# Altium schematic symbol library Schlib_Integral.SchLib: 66 symbols
Pins are listed as number, name and electrical type; pins without a type are passive.

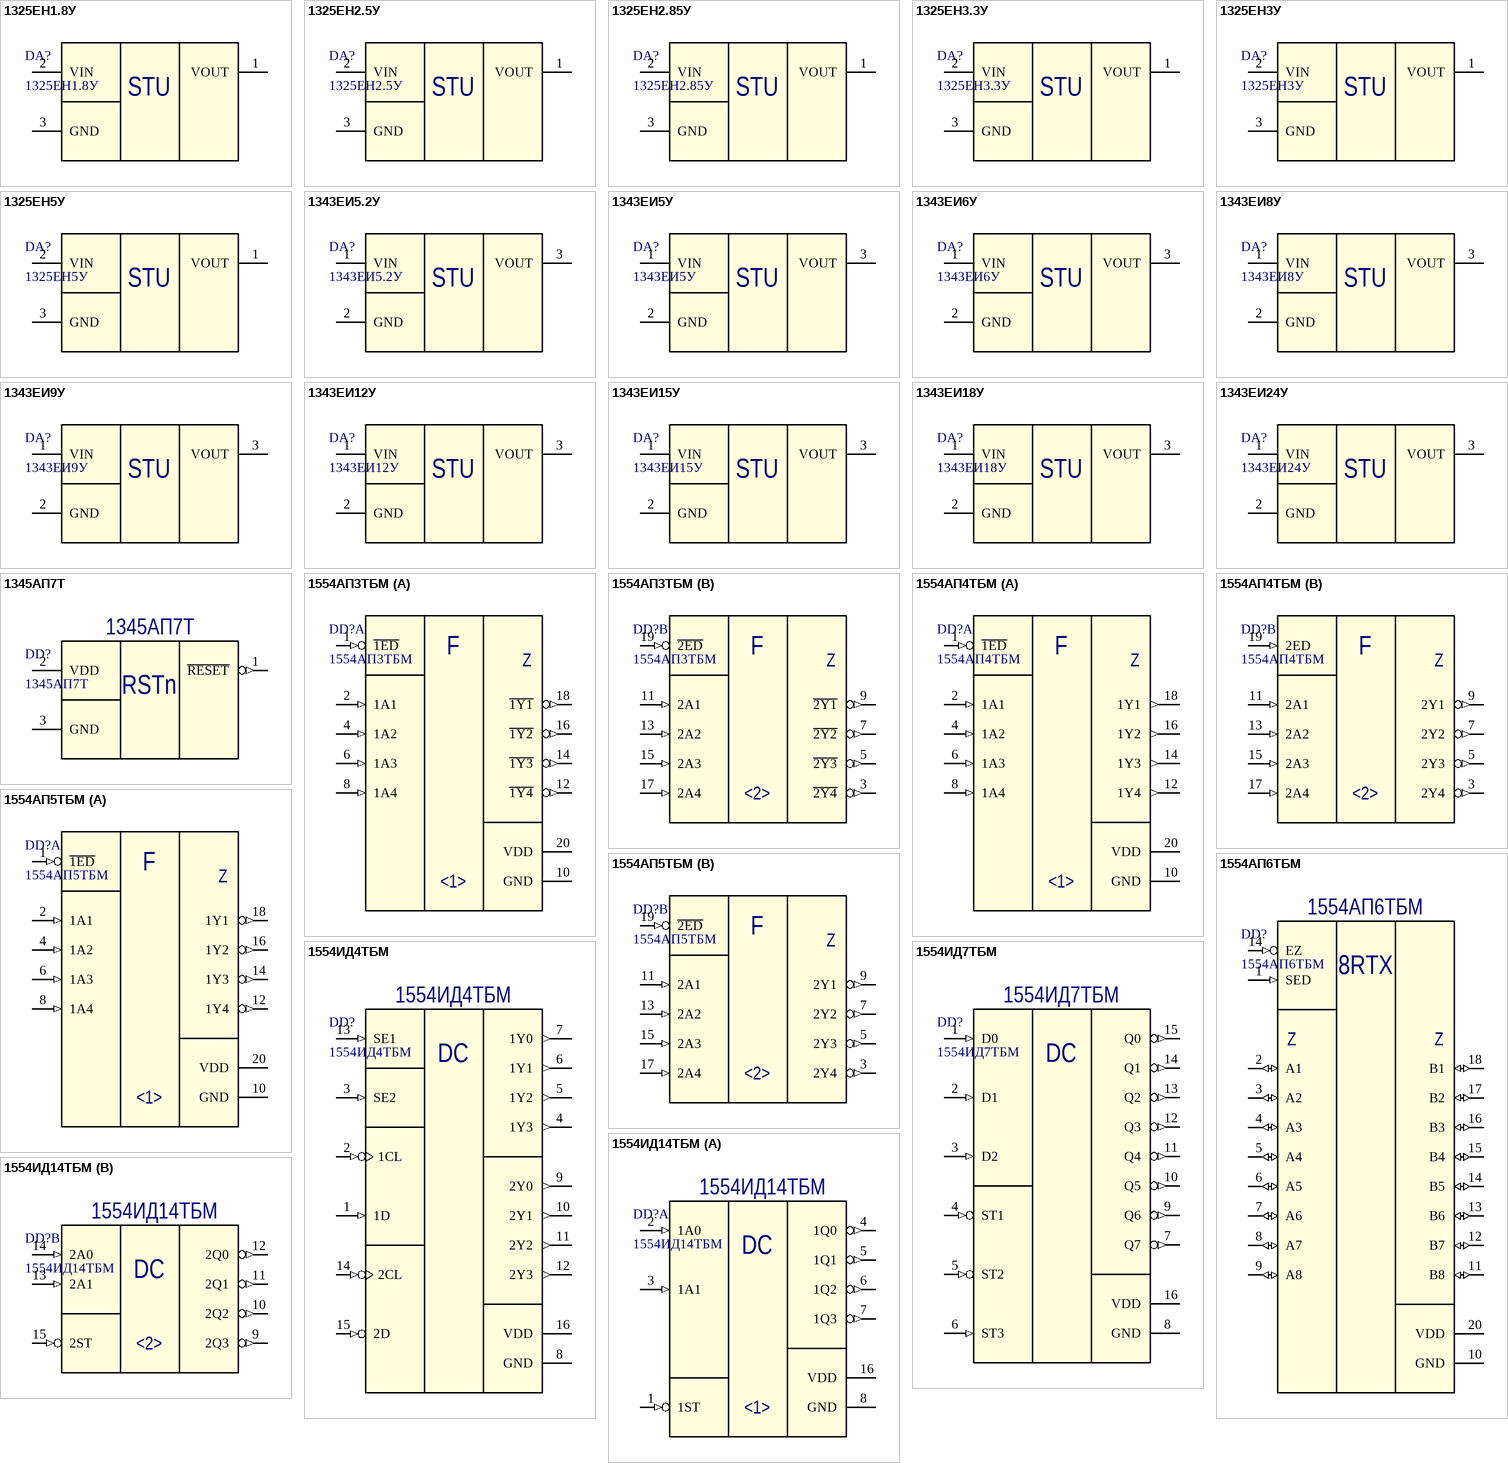
[diagram p0: symbols 1325ЕН1.8У to 1554ИД14ТБМ]

## 1325ЕН1.8У
designator DA?
Стабилизатор напряжения положительной полярности с низким напряжением насыщения с фиксированным выходным напряжением: 1.8В; Выходной ток – Iвых ≤ 0.8А; Package: КТ93-1; Part Number: 1325ЕН1.8У
footprint КТ93-1
pins: 1 VOUT (power), 2 VIN (power), 3 GND (power)
text: STU

## 1325ЕН2.5У
designator DA?
Стабилизаторы напряжения положительной полярности с низким напряжением насыщения с фиксированными выходными напряжениями: 2.5В; Выходной ток – Iвых ≤ 0.8А; Package: КТ93-1; Part Number: 1325ЕН2.5У
footprint КТ93-1
pins: 1 VOUT (power), 2 VIN (power), 3 GND (power)
text: STU

## 1325ЕН2.85У
designator DA?
Стабилизаторы напряжения положительной полярности с низким напряжением насыщения с фиксированными выходными напряжениями: 2.85В; Выходной ток – Iвых ≤ 0.8А; Package: КТ93-1; Part Number: 1325ЕН2.85У
footprint КТ93-1
pins: 1 VOUT (power), 2 VIN (power), 3 GND (power)
text: STU

## 1325ЕН3.3У
designator DA?
Стабилизаторы напряжения положительной полярности с низким напряжением насыщения с фиксированными выходными напряжениями: 3.3В; Выходной ток – Iвых ≤ 0.8А; Package: КТ93-1; Part Number: 1325ЕН3.3У
footprint КТ93-1
pins: 1 VOUT (power), 2 VIN (power), 3 GND (power)
text: STU

## 1325ЕН3У
designator DA?
Стабилизаторы напряжения положительной полярности с низким напряжением насыщения с фиксированными выходными напряжениями: 3В; Выходной ток – Iвых ≤ 0.8А; Package: КТ93-1; Part Number: 1325ЕН3У
footprint КТ93-1
pins: 1 VOUT (power), 2 VIN (power), 3 GND (power)
text: STU

## 1325ЕН5У
designator DA?
Стабилизаторы напряжения положительной полярности с низким напряжением насыщения с фиксированными выходными напряжениями: 5В; Выходной ток – Iвых ≤ 0.8А; Package: КТ93-1; Part Number: 1325ЕН5У
footprint КТ93-1
pins: 1 VOUT (power), 2 VIN (power), 3 GND (power)
text: STU

## 1343ЕИ5.2У
designator DA?
Стабилизатор напряжения отрицательной  полярности с фиксированным выходным напряжением -5.2В Выходной ток – IВЫХ ≤ 1.5А; Package: КТ93-1; Part Number: 1343ЕИ5.2У
footprint КТ93-1
pins: 1 VIN (power), 2 GND (power), 3 VOUT (power)
text: STU

## 1343ЕИ5У
designator DA?
Стабилизатор напряжения отрицательной  полярности с фиксированным выходным напряжением -5В Выходной ток – IВЫХ ≤ 1.5А; Package: КТ93-1; Part Number: 1343ЕИ5У
footprint КТ93-1
pins: 1 VIN (power), 2 GND (power), 3 VOUT (power)
text: STU

## 1343ЕИ6У
designator DA?
Стабилизатор напряжения отрицательной полярности с фиксированным выходным напряжением -6В Выходной ток – IВЫХ ≤ 1.5А; Package: КТ93-1; Part Number: 1343ЕИ6У
footprint КТ93-1
pins: 1 VIN (power), 2 GND (power), 3 VOUT (power)
text: STU

## 1343ЕИ8У
designator DA?
Стабилизатор напряжения отрицательной  полярности с фиксированным выходным напряжением -8В Выходной ток – IВЫХ ≤ 1.5А; Package: КТ93-1; Part Number: 1343ЕИ8У
footprint КТ93-1
pins: 1 VIN (power), 2 GND (power), 3 VOUT (power)
text: STU

## 1343ЕИ9У
designator DA?
Стабилизатор напряжения отрицательной  полярности с фиксированным выходным напряжением -9В Выходной ток – IВЫХ ≤ 1.5А; Package: КТ93-1; Part Number: 1343ЕИ9У
footprint КТ93-1
pins: 1 VIN (power), 2 GND (power), 3 VOUT (power)
text: STU

## 1343ЕИ12У
designator DA?
Стабилизатор напряжения отрицательной  полярности с фиксированным выходным напряжением -12В Выходной ток – IВЫХ ≤ 1.5А; Package: КТ93-1; Part Number: 1343ЕИ12У
footprint КТ93-1
pins: 1 VIN (power), 2 GND (power), 3 VOUT (power)
text: STU

## 1343ЕИ15У
designator DA?
Стабилизатор напряжения отрицательной  полярности с фиксированным выходным напряжением -15В Выходной ток – IВЫХ ≤ 1.5А; Package: КТ93-1; Part Number: 1343ЕИ15У
footprint КТ93-1
pins: 1 VIN (power), 2 GND (power), 3 VOUT (power)
text: STU

## 1343ЕИ18У
designator DA?
Стабилизатор напряжения отрицательной  полярности с фиксированным выходным напряжением-18В Выходной ток – IВЫХ ≤ 1.5А; Package: КТ93-1; Part Number: 1343ЕИ18У
footprint КТ93-1
pins: 1 VIN (power), 2 GND (power), 3 VOUT (power)
text: STU

## 1343ЕИ24У
designator DA?
Стабилизатор напряжения отрицательной  полярности с фиксированным выходными напряжением -24В Выходной ток – Iвых ≤ 1.5А; Package: КТ93-1; Part Number: 1343ЕИ24У
footprint КТ93-1
pins: 1 VIN (power), 2 GND (power), 3 VOUT (power)
text: STU

## 1345АП7Т
designator DD?
Супервизор питания Напряжение порога срабатывания, UТН = 2,90 ÷ 3,25 В; Package: 4601.3-1; Part Number: 1345АП7Т
footprint 4601.3-1
pins: 1 ~{RESET} (out), 2 VDD (power), 3 GND (power)
text: RSTn

## 1554АП3ТБМ
designator DD?
Два четырехканальных формирователя с тремя состояниями и инверсией на выходе; Prototype: 54AC240; Package: 4153.20-6; Part Number: 1554АП3ТБМ
footprint 4153.20-6
part A pins: 1 ~{1ED} (in), 2 1A1 (in), 4 1A2 (in), 6 1A3 (in), 8 1A4 (in), 10 GND (power), 12 ~{1Y4} (out), 14 ~{1Y3} (out), 16 ~{1Y2} (out), 18 ~{1Y1} (out), 20 VDD (power)
part B pins: 3 ~{2Y4} (out), 5 ~{2Y3} (out), 7 ~{2Y2} (out), 9 ~{2Y1} (out), 11 2A1 (in), 13 2A2 (in), 15 2A3 (in), 17 2A4 (in), 19 ~{2ED} (in)
part A text: F; Z; <1>
part B text: F; Z; <2>

## 1554АП4ТБМ
designator DD?
Два четырехканальных формирователя с тремя состояниями на выходе; Prototype: 54AC241; Package: 4153.20-6; Part Number: 1554АП4ТБМ
footprint 4153.20-6
part A pins: 1 ~{1ED} (in), 2 1A1 (in), 4 1A2 (in), 6 1A3 (in), 8 1A4 (in), 10 GND (power), 12 1Y4 (out), 14 1Y3 (out), 16 1Y2 (out), 18 1Y1 (out), 20 VDD (power)
part B pins: 3 2Y4 (out), 5 2Y3 (out), 7 2Y2 (out), 9 2Y1 (out), 11 2A1 (in), 13 2A2 (in), 15 2A3 (in), 17 2A4 (in), 19 2ED (in)
part A text: F; Z; <1>
part B text: F; Z; <2>

## 1554АП5ТБМ
designator DD?
Два четырехканальных формирователя с тремя состояниями на выходе; Prototype: 54AC244; Package: 4153.20-6; Part Number: 1554АП5ТБМ
footprint 4153.20-6
part A pins: 1 ~{1ED} (in), 2 1A1 (in), 4 1A2 (in), 6 1A3 (in), 8 1A4 (in), 10 GND (power), 12 1Y4 (out), 14 1Y3 (out), 16 1Y2 (out), 18 1Y1 (out), 20 VDD (power)
part B pins: 3 2Y4 (out), 5 2Y3 (out), 7 2Y2 (out), 9 2Y1 (out), 11 2A1 (in), 13 2A2 (in), 15 2A3 (in), 17 2A4 (in), 19 ~{2ED} (in)
part A text: F; Z; <1>
part B text: F; Z; <2>

## 1554АП6ТБМ
designator DD?
Восьмиканальный двунаправленный приемо-передатчик с тремя состояниями на выходе; Prototype: 54AC245; Package: 4153.20-6; Part Number: 1554АП6ТБМ
footprint 4153.20-6
pins: 1 SED (in), 2 A1 (io), 3 A2 (io), 4 A3 (io), 5 A4 (io), 6 A5 (io), 7 A6 (io), 8 A7 (io), 9 A8 (io), 10 GND (power), 11 B8 (io), 12 B7 (io), 13 B6 (io), 14 EZ (in), 14 B5 (io), 15 B4 (io), 16 B3 (io), 17 B2 (io), 18 B1 (io), 20 VDD (power)
text: 8RTX; Z

## 1554ИД4ТБМ
designator DD?
Сдвоенный дешифратор-демультиплексор 2-4; Prototype: 54AC155; Package: 402.16-32; Part Number: 1554ИД4ТБМ
footprint 402.16-32
pins: 1 1D (in), 2 1CL (in), 3 SE2 (in), 4 1Y3 (out), 5 1Y2 (out), 6 1Y1 (out), 7 1Y0 (out), 8 GND (power), 9 2Y0 (out), 10 2Y1 (out), 11 2Y2 (out), 12 2Y3 (out), 13 SE1 (in), 14 2CL (in), 15 2D (in), 16 VDD (power)
text: DC

## 1554ИД7ТБМ
designator DD?
Дешифратор-демультиплексор 3-8 с инверсией на выходе; Prototype: 54AC138; Package: 402.16-32; Part Number: 1554ИД7ТБМ
footprint 402.16-32
pins: 1 D0 (in), 2 D1 (in), 3 D2 (in), 4 ST1 (in), 5 ST2 (in), 6 ST3 (in), 7 Q7 (out), 8 GND (power), 9 Q6 (out), 10 Q5 (out), 11 Q4 (out), 12 Q3 (out), 13 Q2 (out), 14 Q1 (out), 15 Q0 (out), 16 VDD (power)
text: DC

## 1554ИД14ТБМ
designator DD?
Два дешифратора-демультиплексора 2-4 с инверсией на выходе; Prototype: 54AC139; Package: 402.16-32; Part Number: 1554ИД14ТБМ
footprint 402.16-32
part A pins: 1 1ST (in), 2 1A0 (in), 3 1A1 (in), 4 1Q0 (out), 5 1Q1 (out), 6 1Q2 (out), 7 1Q3 (out), 8 GND (power), 16 VDD (power)
part B pins: 9 2Q3 (out), 10 2Q2 (out), 11 2Q1 (out), 12 2Q0 (out), 13 2A1 (in), 14 2A0 (in), 15 2ST (in)
part A text: DC; <1>
part B text: DC; <2>

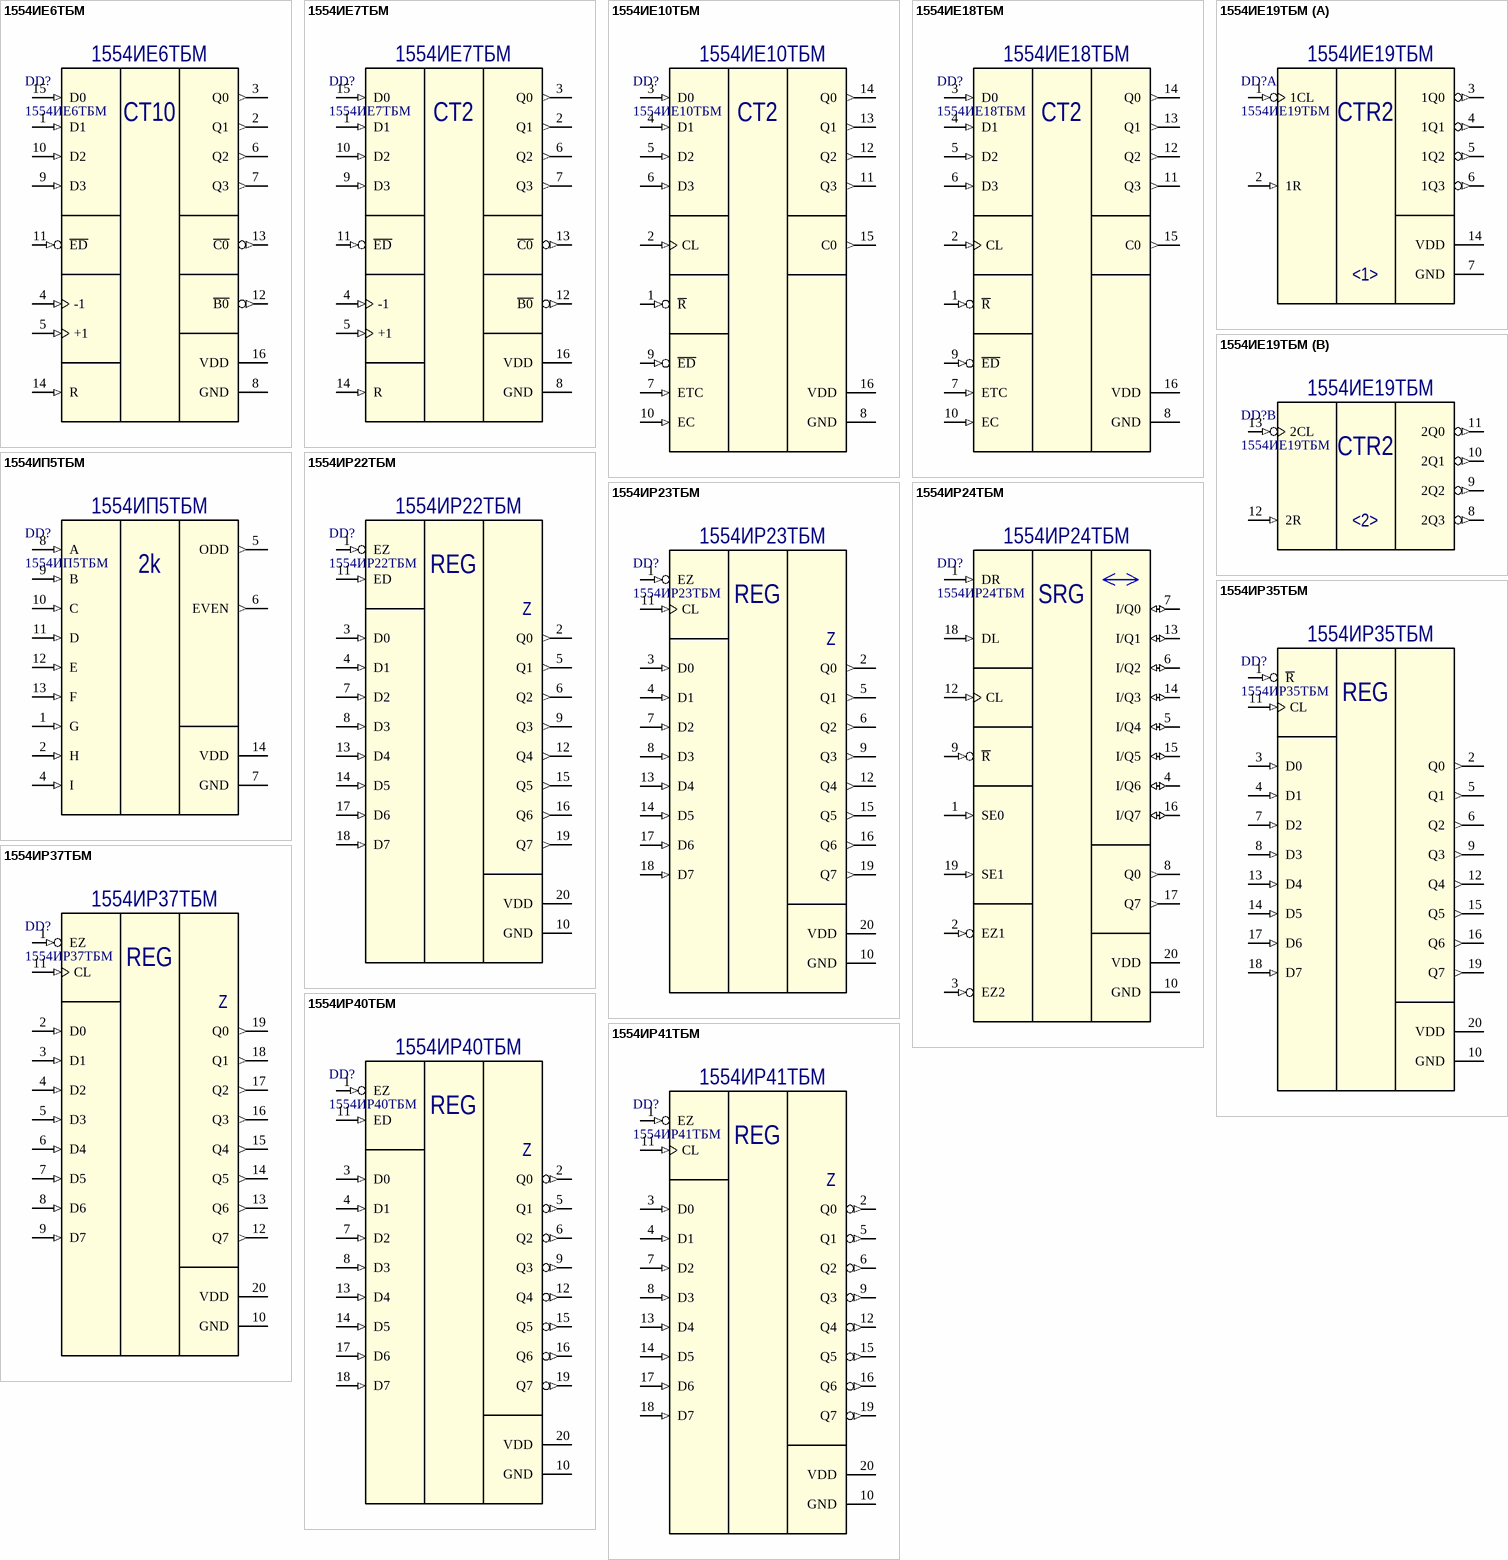
[diagram p1: symbols 1554ИЕ6ТБМ to 1554ИР41ТБМ]

## 1554ИЕ6ТБМ
designator DD?
Четырехразрядный двоично-десятичный реверсивный счетчик; Prototype: 54AC192; Package: 402.16-32; Part Number: 1554ИЕ6ТБМ
footprint 402.16-32
pins: 1 D1 (in), 2 Q1 (out), 3 Q0 (out), 4 -1 (in), 5 +1 (in), 6 Q2 (out), 7 Q3 (out), 8 GND (power), 9 D3 (in), 10 D2 (in), 11 ~{ED} (in), 12 ~{B0} (out), 13 ~{C0} (out), 14 R (in), 15 D0 (in), 16 VDD (power)
text: CT10

## 1554ИЕ7ТБМ
designator DD?
Четырехразрядный двоичный реверсивный счетчик; Prototype: 54AC193; Package: 402.16-32; Part Number: 1554ИЕ7ТБМ
footprint 402.16-32
pins: 1 D1 (in), 2 Q1 (out), 3 Q0 (out), 4 -1 (in), 5 +1 (in), 6 Q2 (out), 7 Q3 (out), 8 GND (power), 9 D3 (in), 10 D2 (in), 11 ~{ED} (in), 12 ~{B0} (out), 13 ~{C0} (out), 14 R (in), 15 D0 (in), 16 VDD (power)
text: CT2

## 1554ИЕ10ТБМ
designator DD?
Четырехразрядный двоичный счетчик с асинхронной установкой в состояние 'Логический 0'; Prototype: 54AC161; Package: 402.16-32; Part Number: 1554ИЕ10ТБМ
footprint 402.16-32
pins: 1 ~{R} (in), 2 CL (in), 3 D0 (in), 4 D1 (in), 5 D2 (in), 6 D3 (in), 7 ETC (in), 8 GND (power), 9 ~{ED} (in), 10 EC (in), 11 Q3 (out), 12 Q2 (out), 13 Q1 (out), 14 Q0 (out), 15 C0 (out), 16 VDD (power)
text: CT2

## 1554ИЕ18ТБМ
designator DD?
Четырехразрядный двоичный счетчик с синхронной установкой в состояние 'Логический 0'; Prototype: 54AC163; Package: 402.16-32; Part Number: 1554ИЕ18ТБМ
footprint 402.16-32
pins: 1 ~{R} (in), 2 CL (in), 3 D0 (in), 4 D1 (in), 5 D2 (in), 6 D3 (in), 7 ETC (in), 8 GND (power), 9 ~{ED} (in), 10 EC (in), 11 Q3 (out), 12 Q2 (out), 13 Q1 (out), 14 Q0 (out), 15 C0 (out), 16 VDD (power)
text: CT2

## 1554ИЕ19ТБМ
designator DD?
Два дешифратора-демультиплексора 2-4 с инверсией на выходе; Prototype: 54AC139; Package: 402.16-32; Part Number: 1554ИЕ19ТБМ
footprint 401.14-5
part A pins: 1 1CL (in), 2 1R (in), 3 1Q0 (out), 4 1Q1 (out), 5 1Q2 (out), 6 1Q3 (out), 7 GND (power), 14 VDD (power)
part B pins: 8 2Q3 (out), 9 2Q2 (out), 10 2Q1 (out), 11 2Q0 (out), 12 2R (in), 13 2CL (in)
part A text: CTR2; <1>
part B text: CTR2; <2>

## 1554ИП5ТБМ
designator DD?
Девятиразрядная схема контроля четности; Prototype: 54AC280; Package: 401.14-5; Part Number: 1554ИП5ТБМ
footprint 401.14-5
pins: 1 G (in), 2 H (in), 4 I (in), 5 ODD (out), 6 EVEN (out), 7 GND (power), 8 A (in), 9 B (in), 10 C (in), 11 D (in), 12 E (in), 13 F (in), 14 VDD (power)
text: 2k

## 1554ИР22ТБМ
designator DD?
Восьмиразрядный регистр, управляемый по уровню, с параллельным вводом-выводом данных, с тремя состояниями на выходе; Prototype: 54AC373; Package: 4153.20-6; Part Number: 1554ИР22ТБМ
footprint 4153.20-6
pins: 1 EZ (in), 2 Q0 (out), 3 D0 (in), 4 D1 (in), 5 Q1 (out), 6 Q2 (out), 7 D2 (in), 8 D3 (in), 9 Q3 (out), 10 GND (power), 11 ED (in), 12 Q4 (out), 13 D4 (in), 14 D5 (in), 15 Q5 (out), 16 Q6 (out), 17 D6 (in), 18 D7 (in), 19 Q7 (out), 20 VDD (power)
text: REG; Z

## 1554ИР23ТБМ
designator DD?
Восьмиразрядный регистр, управляемый по фронту, с параллельным вводом-выводом данных, с тремя состояниями на выходе; Prototype: 54AC374; Package: 4153.20-6; Part Number: 1554ИР23ТБМ
footprint 4153.20-6
pins: 1 EZ (in), 2 Q0 (out), 3 D0 (in), 4 D1 (in), 5 Q1 (out), 6 Q2 (out), 7 D2 (in), 8 D3 (in), 9 Q3 (out), 10 GND (power), 11 CL (in), 12 Q4 (out), 13 D4 (in), 14 D5 (in), 15 Q5 (out), 16 Q6 (out), 17 D6 (in), 18 D7 (in), 19 Q7 (out), 20 VDD (power)
text: REG; Z

## 1554ИР24ТБМ
designator DD?
Восьмиразрядный двунаправленный сдвиговый регистр с параллельным вводом-выводом, последовательным вводом информации, асинхронным сбросом и тремя состояниями на выходе; Prototype: 54AC299; Package: 4153.20-6; Part Number: 1554ИР24ТБМ
footprint 4153.20-6
pins: 1 DR (in), 1 SE0 (in), 2 EZ1 (in), 3 EZ2 (in), 4 I/Q6 (io), 5 I/Q4 (io), 6 I/Q2 (io), 7 I/Q0 (io), 8 Q0 (out), 9 ~{R} (in), 10 GND (power), 12 CL (in), 13 I/Q1 (io), 14 I/Q3 (io), 15 I/Q5 (io), 16 I/Q7 (io), 17 Q7 (out), 18 DL (in), 19 SE1 (in), 20 VDD (power)
text: SRG

## 1554ИР35ТБМ
designator DD?
Восьмиразрядный регистр, управляемый по фронту, с параллельным вводом-выводом данных, с входом установки; Prototype: 54AC273; Package: 4153.20-6; Part Number: 1554ИР35ТБМ
footprint 4153.20-6
pins: 1 ~{R} (in), 2 Q0 (out), 3 D0 (in), 4 D1 (in), 5 Q1 (out), 6 Q2 (out), 7 D2 (in), 8 D3 (in), 9 Q3 (out), 10 GND (power), 11 CL (in), 12 Q4 (out), 13 D4 (in), 14 D5 (in), 15 Q5 (out), 16 Q6 (out), 17 D6 (in), 18 D7 (in), 19 Q7 (out), 20 VDD (power)
text: REG

## 1554ИР37ТБМ
designator DD?
Восьмиразрядный регистр, управляемый по фронту, с параллельным вводом-выводом данных, с входом установки; Prototype: 54AC273; Package: 4153.20-6; Part Number: 1554ИР37ТБМ
footprint 4153.20-6
pins: 1 EZ (in), 2 D0 (in), 3 D1 (in), 4 D2 (in), 5 D3 (in), 6 D4 (in), 7 D5 (in), 8 D6 (in), 9 D7 (in), 10 GND (power), 11 CL (in), 12 Q7 (out), 13 Q6 (out), 14 Q5 (out), 15 Q4 (out), 16 Q3 (out), 17 Q2 (out), 18 Q1 (out), 19 Q0 (out), 20 VDD (power)
text: REG; Z

## 1554ИР40ТБМ
designator DD?
Восьмиразрядный регистр, управляемый по уровню, с параллельным вводом-выводом данных, с тремя состояниями и инверсией на выходе; Prototype: 54AC533; Package: 4153.20-6; Part Number: 1554ИР40ТБМ
footprint 4153.20-6
pins: 1 EZ (in), 2 Q0 (out), 3 D0 (in), 4 D1 (in), 5 Q1 (out), 6 Q2 (out), 7 D2 (in), 8 D3 (in), 9 Q3 (out), 10 GND (power), 11 ED (in), 12 Q4 (out), 13 D4 (in), 14 D5 (in), 15 Q5 (out), 16 Q6 (out), 17 D6 (in), 18 D7 (in), 19 Q7 (out), 20 VDD (power)
text: REG; Z

## 1554ИР41ТБМ
designator DD?
Восьмиразрядный регистр, управляемый по фронту, с параллельным вводом-выводом данных, с тремя состояниями и инверсией на выходе; Prototype: 54AC534; Package: 4153.20-6; Part Number: 1554ИР41ТБМ
footprint 4153.20-6
pins: 1 EZ (in), 2 Q0 (out), 3 D0 (in), 4 D1 (in), 5 Q1 (out), 6 Q2 (out), 7 D2 (in), 8 D3 (in), 9 Q3 (out), 10 GND (power), 11 CL (in), 12 Q4 (out), 13 D4 (in), 14 D5 (in), 15 Q5 (out), 16 Q6 (out), 17 D6 (in), 18 D7 (in), 19 Q7 (out), 20 VDD (power)
text: REG; Z

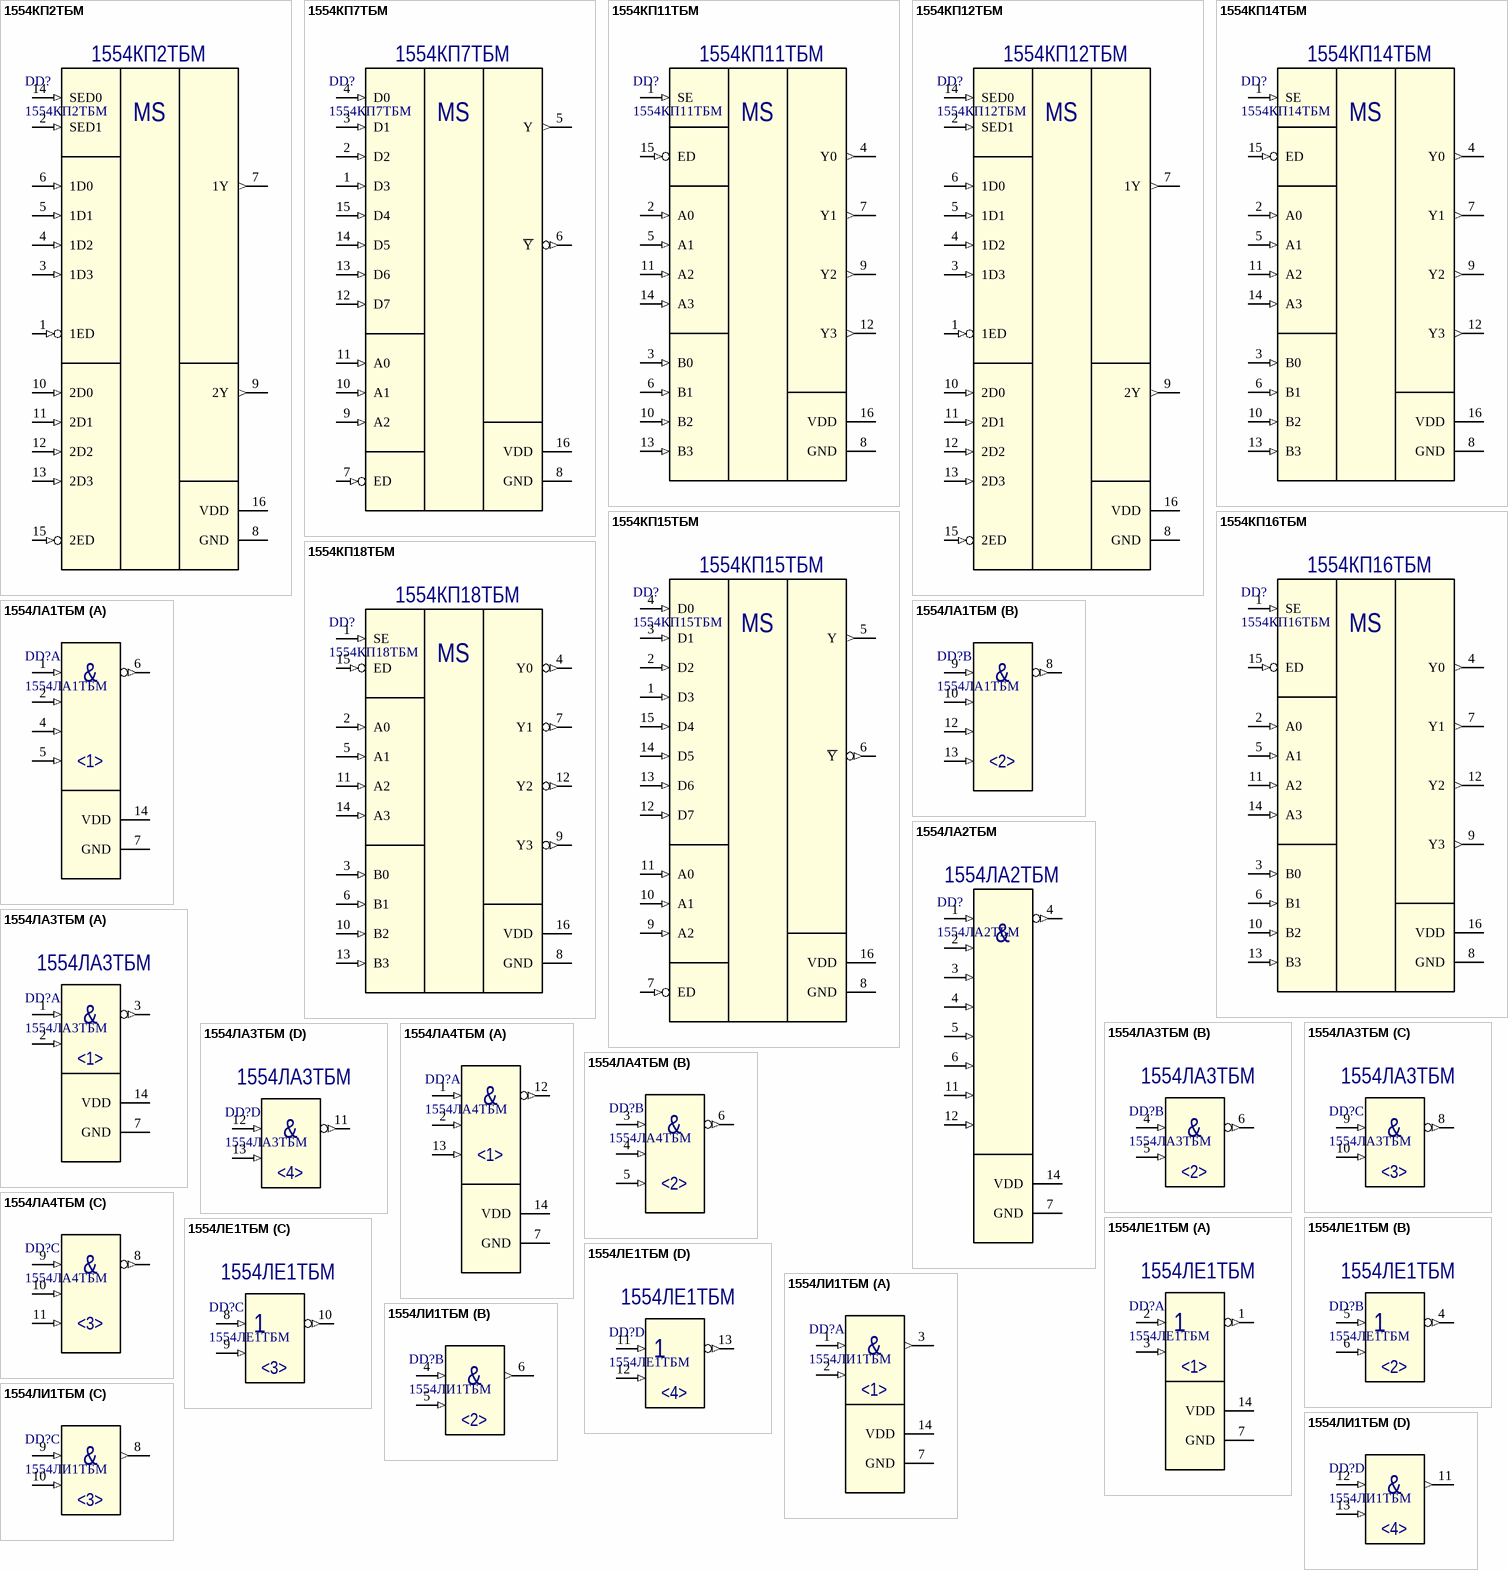
[diagram p2: symbols 1554КП2ТБМ to 1554ЛИ1ТБМ]

## 1554КП2ТБМ
designator DD?
Два селектора-мультиплексора 4-1; Prototype: 54AC153; Package: 402.16-32; Part Number: 1554КП2ТБМ
footprint 402.16-32
pins: 1 1ED (in), 2 SED1 (in), 3 1D3 (in), 4 1D2 (in), 5 1D1 (in), 6 1D0 (in), 7 1Y (out), 8 GND (power), 9 2Y (out), 10 2D0 (in), 11 2D1 (in), 12 2D2 (in), 13 2D3 (in), 14 SED0 (in), 15 2ED (in), 16 VDD (power)
text: MS

## 1554КП7ТБМ
designator DD?
Селектор-мультиплексор 8-1 со стробированием; Prototype: 54AC151; Package: 402.16-32; Part Number: 1554КП7ТБМ
footprint 402.16-32
pins: 1 D3 (in), 2 D2 (in), 3 D1 (in), 4 D0 (in), 5 Y (out), 6 ~{Y} (out), 7 ED (in), 8 GND (power), 9 A2 (in), 10 A1 (in), 11 A0 (in), 12 D7 (in), 13 D6 (in), 14 D5 (in), 15 D4 (in), 16 VDD (power)
text: MS

## 1554КП11ТБМ
designator DD?
Четыре селектора-мультиплексора 2-1 с тремя состояниями на выходе; Prototype: 54AC257; Package: 402.16-32; Part Number: 1554КП11ТБМ
footprint 402.16-32
pins: 1 SE (in), 2 A0 (in), 3 B0 (in), 4 Y0 (out), 5 A1 (in), 6 B1 (in), 7 Y1 (out), 8 GND (power), 9 Y2 (out), 10 B2 (in), 11 A2 (in), 12 Y3 (out), 13 B3 (in), 14 A3 (in), 15 ED (in), 16 VDD (power)
text: MS

## 1554КП12ТБМ
designator DD?
Два селектора-мультиплексора 4-1 с тремя состояниями на выходе; Prototype: 54AC253; Package: 402.16-32; Part Number: 1554КП12ТБМ
footprint 402.16-32
pins: 1 1ED (in), 2 SED1 (in), 3 1D3 (in), 4 1D2 (in), 5 1D1 (in), 6 1D0 (in), 7 1Y (out), 8 GND (power), 9 2Y (out), 10 2D0 (in), 11 2D1 (in), 12 2D2 (in), 13 2D3 (in), 14 SED0 (in), 15 2ED (in), 16 VDD (power)
text: MS

## 1554КП14ТБМ
designator DD?
Четыре селектора-мультиплексора 2-1 с тремя состояниями и инверсией на выходе; Prototype: 54AC258; Package: 402.16-32; Part Number: 1554КП14ТБМ
footprint 402.16-32
pins: 1 SE (in), 2 A0 (in), 3 B0 (in), 4 Y0 (out), 5 A1 (in), 6 B1 (in), 7 Y1 (out), 8 GND (power), 9 Y2 (out), 10 B2 (in), 11 A2 (in), 12 Y3 (out), 13 B3 (in), 14 A3 (in), 15 ED (in), 16 VDD (power)
text: MS

## 1554КП15ТБМ
designator DD?
Селектор-мультиплексор 8-1 с тремя состояниями на выходе; Prototype: 54AC251; Package: 402.16-32; Part Number: 1554КП15ТБМ
footprint 402.16-32
pins: 1 D3 (in), 2 D2 (in), 3 D1 (in), 4 D0 (in), 5 Y (out), 6 ~{Y} (out), 7 ED (in), 8 GND (power), 9 A2 (in), 10 A1 (in), 11 A0 (in), 12 D7 (in), 13 D6 (in), 14 D5 (in), 15 D4 (in), 16 VDD (power)
text: MS

## 1554КП16ТБМ
designator DD?
Четыре селектора-мультиплексора 2-1; Prototype: 54AC157; Package: 402.16-32; Part Number: 1554КП16ТБМ
footprint 402.16-32
pins: 1 SE (in), 2 A0 (in), 3 B0 (in), 4 Y0 (out), 5 A1 (in), 6 B1 (in), 7 Y1 (out), 8 GND (power), 9 Y3 (out), 10 B2 (in), 11 A2 (in), 12 Y2 (out), 13 B3 (in), 14 A3 (in), 15 ED (in), 16 VDD (power)
text: MS

## 1554КП18ТБМ
designator DD?
Четыре селектора-мультиплексора 2-1 с инверсией на выходе; Prototype: 54AC158; Package: 402.16-32; Part Number: 1554КП18ТБМ
footprint 402.16-32
pins: 1 SE (in), 2 A0 (in), 3 B0 (in), 4 Y0 (out), 5 A1 (in), 6 B1 (in), 7 Y1 (out), 8 GND (power), 9 Y3 (out), 10 B2 (in), 11 A2 (in), 12 Y2 (out), 13 B3 (in), 14 A3 (in), 15 ED (in), 16 VDD (power)
text: MS

## 1554ЛА1ТБМ
designator DD?
Два логических элемента “4И-НЕ”; Prototype: 54AC20; Package: 401.14-5; Part Number: 1554ЛА1ТБМ
footprint 401.14-5
part A pins: 1 1A (in), 2 1B (in), 4 1C (in), 5 1D (in), 6 ~{1Y} (out), 7 GND (power), 14 VDD (power)
part B pins: 8 ~{2Y} (out), 9 2A (in), 10 2B (in), 12 2C (in), 13 2D (in)
part A text: &; <1>
part B text: &; <2>

## 1554ЛА2ТБМ
designator DD?
Логический элемент “8И-НЕ”; Prototype: 54AC30; Package: 401.14-5; Part Number: 1554ЛА2ТБМ
footprint 401.14-5
pins: 1 A (in), 2 B (in), 3 C (in), 4 ~{Y} (out), 4 D (in), 5 E (in), 6 F (in), 7 GND (power), 11 G (in), 12 H (in), 14 VDD (power)
text: &

## 1554ЛА3ТБМ
designator DD?
Четыре логических элемента “2И-НЕ”; Prototype: 54AC00; Package: 401.14-5; Part Number: 1554ЛА3ТБМ
footprint 401.14-5
part A pins: 1 1A (in), 2 1B (in), 3 ~{1Y} (out), 7 GND (power), 14 VDD (power)
part B pins: 4 2A (in), 5 2B (in), 6 ~{2Y} (out)
part C pins: 8 ~{3Y} (out), 9 3A (in), 10 3B (in)
part D pins: 11 ~{4Y} (out), 12 4A (in), 13 4B (in)
part A text: &; <1>
part B text: &; <2>
part C text: &; <3>
part D text: &; <4>

## 1554ЛА4ТБМ
designator DD?
Три логических элемента”3И-НЕ”; Prototype: 54AC10; Package: 401.14-5; Part Number: 1554ЛА4ТБМ
footprint 401.14-5
part A pins: 1 1A (in), 2 1B (in), 7 GND (power), 12 ~{1Y} (out), 13 1C (in), 14 VDD (power)
part B pins: 3 2A (in), 4 2B (in), 5 2C (in), 6 ~{2Y} (out)
part C pins: 8 ~{3Y} (out), 9 3A (in), 10 3B (in), 11 3C (in)
part A text: &; <1>
part B text: &; <2>
part C text: &; <3>

## 1554ЛЕ1ТБМ
designator DD?
Четыре логических элемента “2ИЛИ-НЕ”; Prototype: 54AC02; Package: 401.14-5; Part Number: 1554ЛЕ1ТБМ
footprint 401.14-5
part A pins: 1 ~{1Y} (out), 2 1A (in), 3 1B (in), 7 GND (power), 14 VDD (power)
part B pins: 4 ~{2Y} (out), 5 2A (in), 6 2B (in)
part C pins: 8 3A (in), 9 3B (in), 10 ~{3Y} (out)
part D pins: 11 4A (in), 12 4B (in), 13 ~{4Y} (out)
part A text: <1>
part B text: <2>
part C text: <3>
part D text: <4>

## 1554ЛИ1ТБМ
designator DD?
Четыре логических элемента “2И”; Prototype: 54AC08; Package: 401.14-5; Part Number: 1554ЛИ1ТБМ
footprint 401.14-5
part A pins: 1 1A (in), 2 1B (in), 3 ~{1Y} (out), 7 GND (power), 14 VDD (power)
part B pins: 4 2A (in), 5 2B (in), 6 ~{2Y} (out)
part C pins: 8 ~{3Y} (out), 9 3A (in), 10 3B (in)
part D pins: 11 ~{4Y} (out), 12 4A (in), 13 4B (in)
part A text: &; <1>
part B text: &; <2>
part C text: &; <3>
part D text: &; <4>

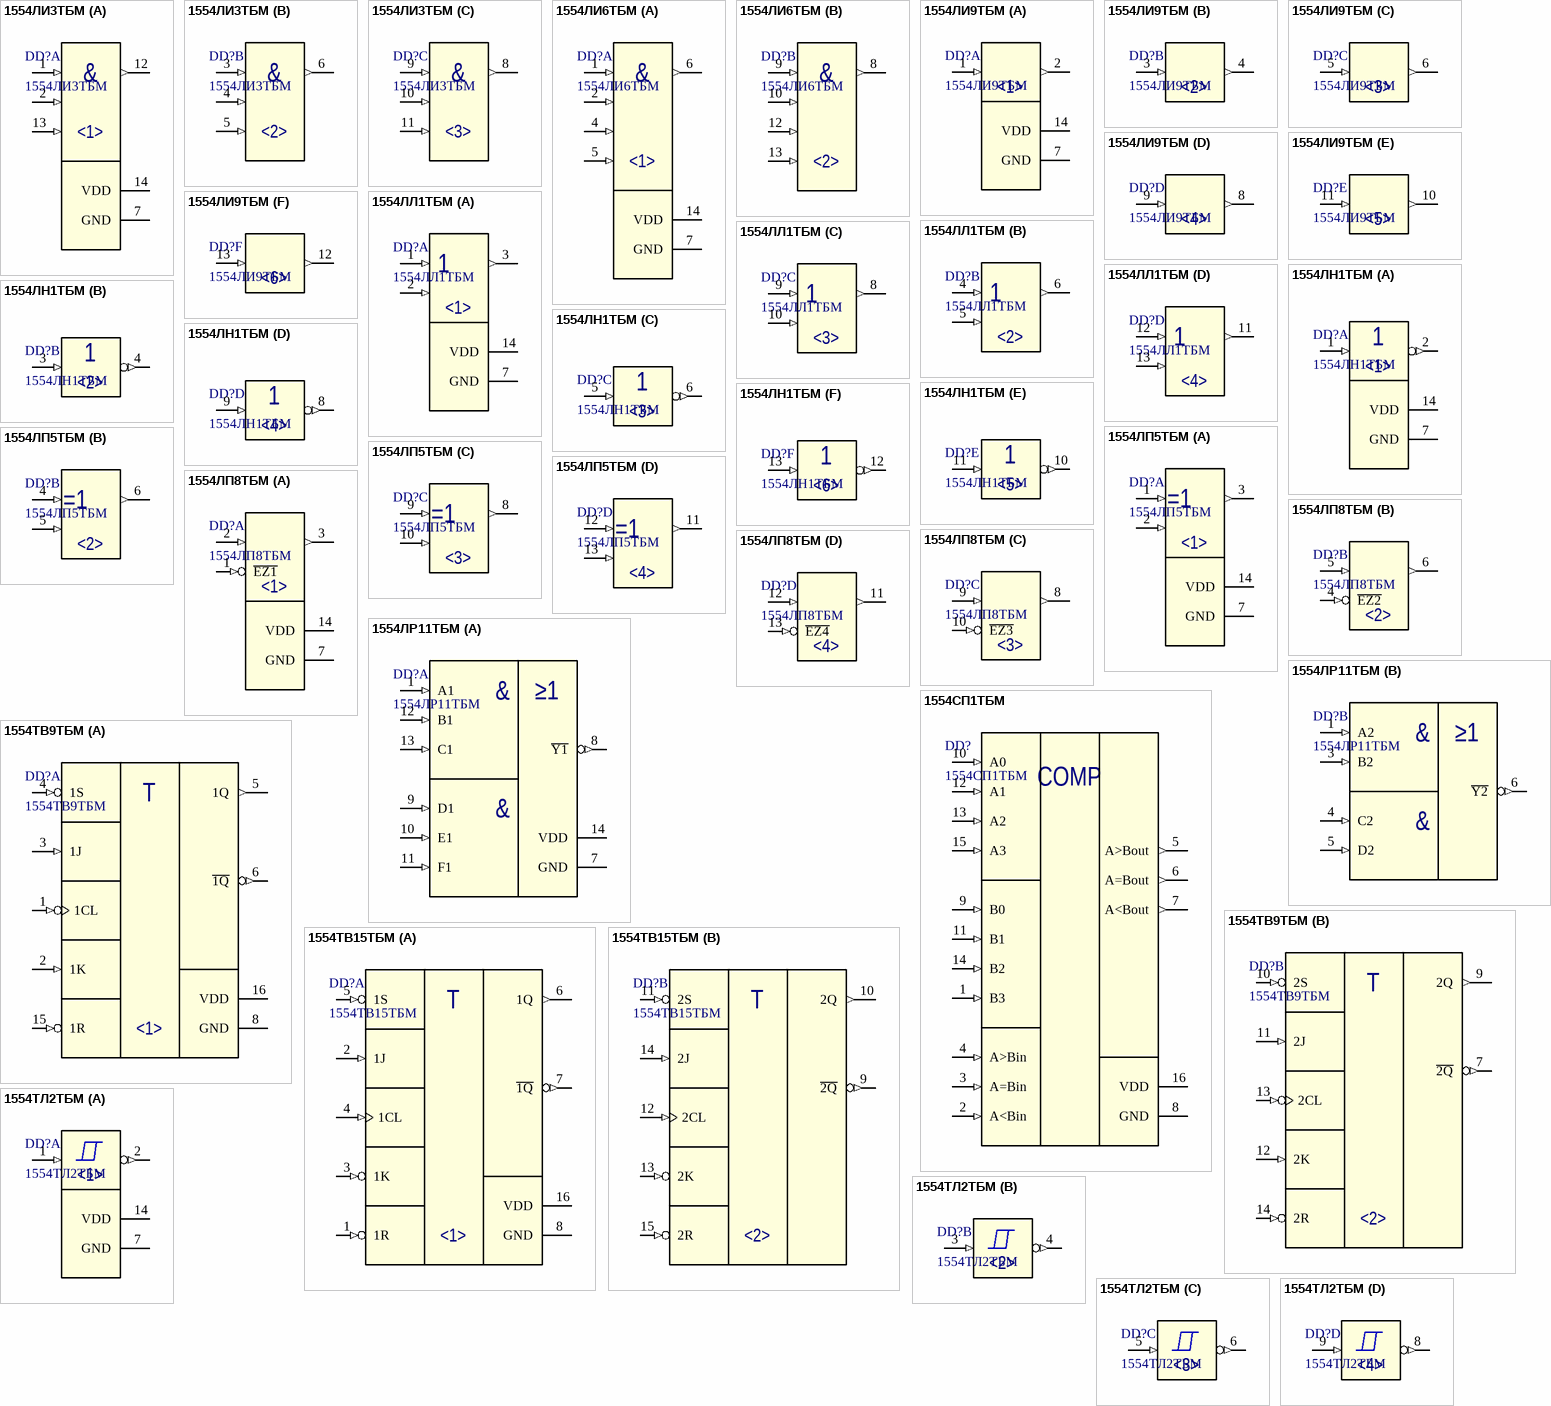
[diagram p3: symbols 1554ЛИ3ТБМ to 1554ТЛ2ТБМ]

## 1554ЛИ3ТБМ
designator DD?
Три логических элемента “3И”; Prototype: 54AC11; Package: 401.14-5; Part Number: 1554ЛИ3ТБМ
footprint 401.14-5
part A pins: 1 1A (in), 2 1B (in), 7 GND (power), 12 ~{1Y} (out), 13 1C (in), 14 VDD (power)
part B pins: 3 2A (in), 4 2B (in), 5 2C (in), 6 ~{2Y} (out)
part C pins: 8 ~{3Y} (out), 9 3A (in), 10 3B (in), 11 3C (in)
part A text: &; <1>
part B text: &; <2>
part C text: &; <3>

## 1554ЛИ6ТБМ
designator DD?
Два логических элемента “4И”; Prototype: 54AC21; Package: 401.14-5; Part Number: 1554ЛИ6ТБМ
footprint 401.14-5
part A pins: 1 1A (in), 2 1B (in), 4 1C (in), 5 1D (in), 6 ~{1Y} (out), 7 GND (power), 14 VDD (power)
part B pins: 8 ~{2Y} (out), 9 2A (in), 10 2B (in), 12 2C (in), 13 2D (in)
part A text: &; <1>
part B text: &; <2>

## 1554ЛИ9ТБМ
designator DD?
Шесть логических повторителей; Prototype: 54AC34; Package: 401.14-5; Part Number: 1554ЛИ9ТБМ
footprint 401.14-5
part A pins: 1 1A (in), 2 1Y (out), 7 GND (power), 14 VDD (power)
part B pins: 3 2A (in), 4 2Y (out)
part C pins: 5 3A (in), 6 3Y (out)
part D pins: 8 4Y (out), 9 4A (in)
part E pins: 10 5Y (out), 11 5A (in)
part F pins: 12 6Y (out), 13 6A (in)
part A text: <1>
part B text: <2>
part C text: <3>
part D text: <4>
part E text: <5>
part F text: <6>

## 1554ЛЛ1ТБМ
designator DD?
Четыре логических элемента “2ИЛИ”; Prototype: 54AC32; Package: 401.14-5; Part Number: 1554ЛЛ1ТБМ
footprint 401.14-5
part A pins: 1 1A (in), 2 1B (in), 3 1Y (out), 7 GND (power), 14 VDD (power)
part B pins: 4 2A (in), 5 2B (in), 6 2Y (out)
part C pins: 8 3Y (out), 9 3A (in), 10 3B (in)
part D pins: 11 4Y (out), 12 4A (in), 13 4B (in)
part A text: <1>
part B text: <2>
part C text: <3>
part D text: <4>

## 1554ЛН1ТБМ
designator DD?
Шесть логических элементов “НЕ”; Prototype: 54AC04; Package: 401.14-5; Part Number: 1554ЛН1ТБМ
footprint 401.14-5
part A pins: 1 1A (in), 2 ~{1Y} (out), 7 GND (power), 14 VDD (power)
part B pins: 3 2A (in), 4 ~{2Y} (out)
part C pins: 5 3A (in), 6 ~{3Y} (out)
part D pins: 8 ~{4Y} (out), 9 4A (in)
part E pins: 10 ~{5Y} (out), 11 5A (in)
part F pins: 12 ~{6Y} (out), 13 6A (in)
part A text: <1>
part B text: <2>
part C text: <3>
part D text: <4>
part E text: <5>
part F text: <6>

## 1554ЛП5ТБМ
designator DD?
Четыре двухвходовых логических элемента “Исключающее ИЛИ”; Prototype: 54AC86; Package: 401.14-5; Part Number: 1554ЛП5ТБМ
footprint 401.14-5
part A pins: 1 1A (in), 2 1B (in), 3 1Y (out), 7 GND (power), 14 VDD (power)
part B pins: 4 2A (in), 5 2B (in), 6 2Y (out)
part C pins: 8 3Y (out), 9 3A (in), 10 3B (in)
part D pins: 11 4Y (out), 12 4A (in), 13 4B (in)
part A text: <1>
part B text: <2>
part C text: <3>
part D text: <4>

## 1554ЛП8ТБМ
designator DD?
Четыре буферных элемента с тремя состояниями на выходе; Prototype: 54AC125; Package: 401.14-5; Part Number: 1554ЛП8ТБМ
footprint 401.14-5
part A pins: 1 ~{EZ1} (in), 2 1D (in), 3 1Q (out), 7 GND (power), 14 VDD (power)
part B pins: 4 ~{EZ2} (in), 5 2D (in), 6 2Q (out)
part C pins: 8 3Q (out), 9 3D (in), 10 ~{EZ3} (in)
part D pins: 11 4Q (out), 12 4D (in), 13 ~{EZ4} (in)
part A text: <1>
part B text: <2>
part C text: <3>
part D text: <4>

## 1554ЛР11ТБМ
designator DD?
Логические элементы "2-2И-2ИЛИ-НЕ" и "3-3И-2ИЛИ-НЕ"; Prototype: 54AC51; Package: 401.14-5; Part Number: 1554ЛР11ТБМ
footprint 401.14-5
part A pins: 1 A1 (in), 7 GND (power), 8 ~{Y1} (out), 9 D1 (in), 10 E1 (in), 11 F1 (in), 12 B1 (in), 13 C1 (in), 14 VDD (power)
part B pins: 1 A2 (in), 3 B2 (in), 4 C2 (in), 5 D2 (in), 6 ~{Y2} (out)
part A text: &; ≥1
part B text: &; ≥1

## 1554СП1ТБМ
designator DD?
Схема сравнения двух четырехразрядных чисел; Prototype: 54AC85; Package: 402.16-32; Part Number: 1554СП1ТБМ
footprint 402.16-32
pins: 1 B3 (in), 2 A<Bin (in), 3 A=Bin (in), 4 A>Bin (in), 5 A>Bout (out), 6 A=Bout (out), 7 A<Bout (out), 8 GND (power), 9 B0 (in), 10 A0 (in), 11 B1 (in), 12 A1 (in), 13 A2 (in), 14 B2 (in), 15 A3 (in), 16 VDD (power)
text: COMP

## 1554ТВ9ТБМ
designator DD?
Два J-K триггера с управлением отрицательным фронтом по тактовому входу; Prototype: 54AC112; Package: 402.16-32; Part Number: 1554ТВ9ТБМ
footprint 402.16-32
part A pins: 1 1CL (in), 2 1K (in), 3 1J (in), 4 1S (in), 5 1Q (out), 6 ~{1Q} (out), 8 GND (power), 15 1R (in), 16 VDD (power)
part B pins: 7 ~{2Q} (out), 9 2Q (out), 10 2S (in), 11 2J (in), 12 2K (in), 13 2CL (in), 14 2R (in)
part A text: T; <1>
part B text: T; <2>

## 1554ТВ15ТБМ
designator DD?
Два J-K триггера с управлением положительным фронтом по тактовому входу; Prototype: 54AC109; Package: 402.16-32; Part Number: 1554ТВ15ТБМ
footprint 402.16-32
part A pins: 1 1R (in), 2 1J (in), 3 1K (in), 4 1CL (in), 5 1S (in), 6 1Q (out), 7 ~{1Q} (out), 8 GND (power), 16 VDD (power)
part B pins: 9 ~{2Q} (out), 10 2Q (out), 11 2S (in), 12 2CL (in), 13 2K (in), 14 2J (in), 15 2R (in)
part A text: T; <1>
part B text: T; <2>

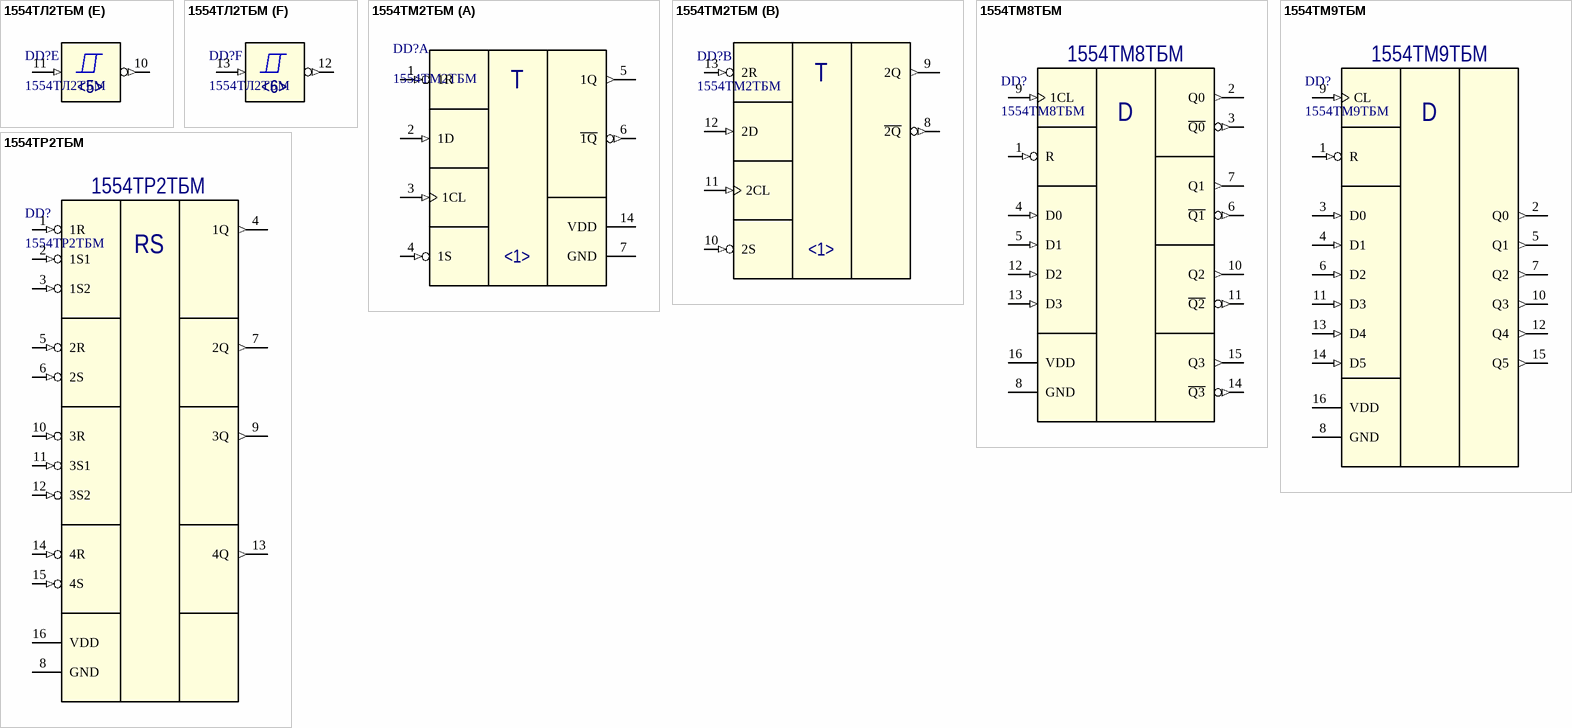
[diagram p4: symbols 1554ТЛ2ТБМ to 1554ТР2ТБМ]

## 1554ТЛ2ТБМ
designator DD?
Шесть инверторов Шмитта; Prototype: 54AC14; Package: 401.14-5; Part Number: 1554ТЛ2ТБМ
footprint 401.14-5
part A pins: 1 1A (in), 2 ~{1Y} (out), 7 GND (power), 14 VDD (power)
part B pins: 3 2A (in), 4 ~{2Y} (out)
part C pins: 5 3A (in), 6 ~{3Y} (out)
part D pins: 8 ~{4Y} (out), 9 4A (in)
part E pins: 10 ~{5Y} (out), 11 5A (in)
part F pins: 12 ~{6Y} (out), 13 6A (in)
part A text: <1>
part B text: <2>
part C text: <3>
part D text: <4>
part E text: <5>
part F text: <6>

## 1554ТМ2ТБМ
designator DD?
Два D-триггера с установкой и сбросом; Prototype: 54AC74; Package: 401.14-5; Part Number: 1554ТМ2ТБМ
footprint 401.14-5
part A pins: 1 1R (in), 2 1D (in), 3 1CL (in), 4 1S (in), 5 1Q (out), 6 ~{1Q} (out), 7 GND (power), 14 VDD (power)
part B pins: 8 ~{2Q} (out), 9 2Q (out), 10 2S (in), 11 2CL (in), 12 2D (in), 13 2R (in)
part A text: T; <1>
part B text: T; <1>

## 1554ТМ8ТБМ
designator DD?
Четыре D-триггера с общими входами управления и сброса; Prototype: 54AC175; Package: 402.16-32; Part Number: 1554ТМ8ТБМ
footprint 402.16-32
pins: 1 R (in), 2 Q0 (out), 3 ~{Q0} (out), 4 D0 (in), 5 D1 (in), 6 ~{Q1} (out), 7 Q1 (out), 8 GND (power), 9 1CL (in), 10 Q2 (out), 11 ~{Q2} (out), 12 D2 (in), 13 D3 (in), 14 ~{Q3} (out), 15 Q3 (out), 16 VDD (power)
text: D

## 1554ТМ9ТБМ
designator DD?
Шесть D-триггеров; Prototype: 54AC174; Package: 402.16-32; Part Number: 1554ТМ9ТБМ
footprint 402.16-32
pins: 1 R (in), 2 Q0 (out), 3 D0 (in), 4 D1 (in), 5 Q1 (out), 6 D2 (in), 7 Q2 (out), 8 GND (power), 9 CL (in), 10 Q3 (out), 11 D3 (in), 12 Q4 (out), 13 D4 (in), 14 D5 (in), 15 Q5 (out), 16 VDD (power)
text: D

## 1554ТР2ТБМ
designator DD?
Четыре R-S триггера; Prototype: 54AC279; Package: 402.16-32; Part Number: 1554ТР2ТБМ
footprint 402.16-32
pins: 1 1R (in), 2 1S1 (in), 3 1S2 (in), 4 1Q (out), 5 2R (in), 6 2S (in), 7 2Q (out), 8 GND (power), 9 3Q (out), 10 3R (in), 11 3S1 (in), 12 3S2 (in), 13 4Q (out), 14 4R (in), 15 4S (in), 16 VDD (power)
text: RS